# Altium footprint library Connector_Phoenix_MC.PcbLib: 180 footprints (part 7 of 12)
Each footprint in its own frame and in the unit in brackets; x right, y up, seen from the top. Pads: shape width x height; smd on the part's side, far side on the other; paste and mask are expansions set on the pad; w line width, h text height; cw(c..) or ccw(c..) is an arc to the next point about the centre after c.
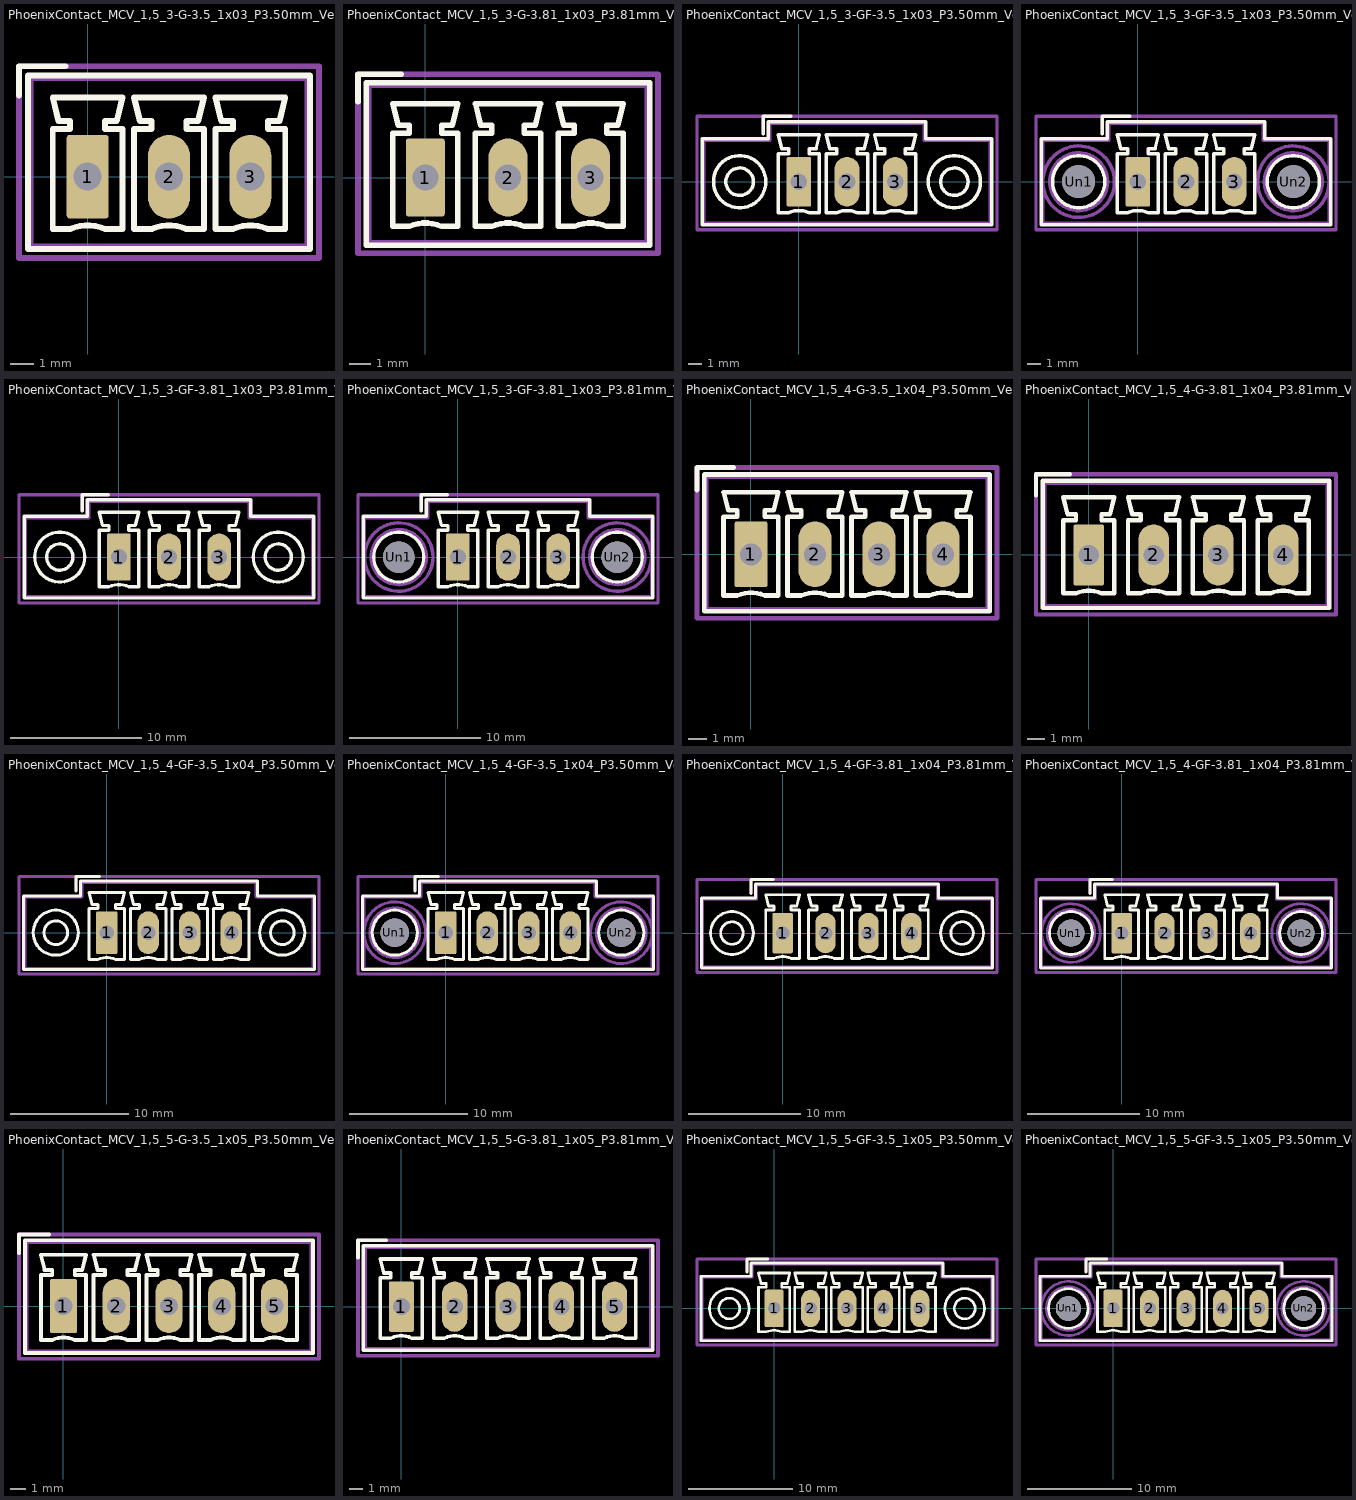
[diagram p6: the footprints below, top view; thin cyan lines are the x and y axes]

## PhoenixContact_MCV_1,5_3-G-3.5_1x03_P3.50mm_Vertical [mm]
pads (3):
  rrect14% 1.8x3.6 hole 1.2: 1(0,0)
  rrect100% 1.8x3.6 hole 1.2: 2(3.5,0) 3(7,0)
F.SilkS:
  lines w0.254: -2.95,3.5 -2.95,4.75 -0.95,4.75 ; 0.75,-2.25 ccw(c0,-3.95) -0.75,-2.25 -1.5,-2.25 -1.5,2.05 -0.75,2.05 -0.75,2.4 -1.25,2.4 -1.5,3.4 1.5,3.4 1.25,2.4 0.75,2.4 0.75,2.05 1.5,2.05 1.5,-2.25 0.75,-2.25 ; -2.56,-3.11 9.56,-3.11 9.56,4.36 -2.56,4.36 -2.56,-3.11 ; 2,-2.25 2.75,-2.25 cw(c3.5,-3.95) 4.25,-2.25 5,-2.25 5,2.05 4.25,2.05 4.25,2.4 4.75,2.4 5,3.4 2,3.4 2.25,2.4 2.75,2.4 2.75,2.05 2,2.05 2,-2.25 ; 5.5,-2.25 6.25,-2.25 cw(c7,-3.95) 7.75,-2.25 8.5,-2.25 8.5,2.05 7.75,2.05 7.75,2.4 8.25,2.4 8.5,3.4 5.5,3.4 5.75,2.4 6.25,2.4 6.25,2.05 5.5,2.05 5.5,-2.25
Top Assembly:
  lines w0.254: -2.95,3.5 -2.95,4.75 -0.95,4.75 ; -2.45,-3 9.45,-3 9.45,4.25 -2.45,4.25 -2.45,-3
  text "'.Designator'" at -0.547,2.71 h1
Top Courtyard:
  lines w0.254: -2.95,-3.5 9.95,-3.5 9.95,4.75 -2.95,4.75 -2.95,-3.5
Top Designator:
  text ".Designator" at -4.118,0.117 h1.52

## PhoenixContact_MCV_1,5_3-G-3.81_1x03_P3.81mm_Vertical [mm]
pads (3):
  rrect14% 1.8x3.6 hole 1.2: 1(0,0)
  rrect100% 1.8x3.6 hole 1.2: 2(3.81,0) 3(7.62,0)
F.SilkS:
  lines w0.254: -3.1,3.5 -3.1,4.75 -1.1,4.75 ; 0.75,-2.25 ccw(c0,-3.95) -0.75,-2.25 -1.5,-2.25 -1.5,2.05 -0.75,2.05 -0.75,2.4 -1.25,2.4 -1.5,3.4 1.5,3.4 1.25,2.4 0.75,2.4 0.75,2.05 1.5,2.05 1.5,-2.25 0.75,-2.25 ; 4.56,-2.25 ccw(c3.81,-3.95) 3.06,-2.25 2.31,-2.25 2.31,2.05 3.06,2.05 3.06,2.4 2.56,2.4 2.31,3.4 5.31,3.4 5.06,2.4 4.56,2.4 4.56,2.05 5.31,2.05 5.31,-2.25 4.56,-2.25 ; 8.37,-2.25 ccw(c7.62,-3.95) 6.87,-2.25 6.12,-2.25 6.12,2.05 6.87,2.05 6.87,2.4 6.37,2.4 6.12,3.4 9.12,3.4 8.87,2.4 8.37,2.4 8.37,2.05 9.12,2.05 9.12,-2.25 8.37,-2.25 ; -2.71,-3.11 10.33,-3.11 10.33,4.36 -2.71,4.36 -2.71,-3.11
Top Assembly:
  lines w0.254: -3.1,3.5 -3.1,4.75 -1.1,4.75 ; -2.6,-3 10.22,-3 10.22,4.25 -2.6,4.25 -2.6,-3
  text "'.Designator'" at -0.237,2.71 h1
Top Courtyard:
  lines w0.254: -3.1,-3.5 10.72,-3.5 10.72,4.75 -3.1,4.75 -3.1,-3.5
Top Designator:
  text ".Designator" at -3.808,0.117 h1.52

## PhoenixContact_MCV_1,5_3-GF-3.5_1x03_P3.50mm_Vertical_ThreadedFlange [mm]
pads (3):
  rrect14% 1.8x3.6 hole 1.2: 1(0,0)
  rrect100% 1.8x3.6 hole 1.2: 2(3.5,0) 3(7,0)
F.SilkS:
  circle w0.254: c11.3,0 r1.9
  circle w0.254: c11.3,0 r1
  circle w0.254: c-4.3,0 r1.9
  circle w0.254: c-4.3,0 r1
  lines w0.254: -2.6,3.5 -2.6,4.75 -0.6,4.75 ; 0.75,-2.25 ccw(c0,-3.95) -0.75,-2.25 -1.5,-2.25 -1.5,2.05 -0.75,2.05 -0.75,2.4 -1.25,2.4 -1.5,3.4 1.5,3.4 1.25,2.4 0.75,2.4 0.75,2.05 1.5,2.05 1.5,-2.25 0.75,-2.25 ; -7.01,-3.11 14.01,-3.11 14.01,3.11 9.21,3.11 9.21,4.36 -2.21,4.36 -2.21,3.11 -7.01,3.11 -7.01,-3.11 ; 2,-2.25 2.75,-2.25 cw(c3.5,-3.95) 4.25,-2.25 5,-2.25 5,2.05 4.25,2.05 4.25,2.4 4.75,2.4 5,3.4 2,3.4 2.25,2.4 2.75,2.4 2.75,2.05 2,2.05 2,-2.25 ; 5.5,-2.25 6.25,-2.25 cw(c7,-3.95) 7.75,-2.25 8.5,-2.25 8.5,2.05 7.75,2.05 7.75,2.4 8.25,2.4 8.5,3.4 5.5,3.4 5.75,2.4 6.25,2.4 6.25,2.05 5.5,2.05 5.5,-2.25
Top Assembly:
  lines w0.254: -2.6,3.5 -2.6,4.75 -0.6,4.75 ; -6.9,-3 13.9,-3 13.9,3 9.1,3 9.1,4.25 -2.1,4.25 -2.1,3 -6.9,3 -6.9,-3
  text "'.Designator'" at -0.547,2.71 h1
Top Courtyard:
  lines w0.254: -7.4,-3.5 14.4,-3.5 14.4,4.75 -7.4,4.75 -7.4,-3.5
Top Designator:
  text ".Designator" at -4.118,0.117 h1.52

## PhoenixContact_MCV_1,5_3-GF-3.5_1x03_P3.50mm_Vertical_ThreadedFlange_MountHole [mm]
pads (5):
  rrect14% 1.8x3.6 hole 1.2: 1(0,0)
  rrect100% 1.8x3.6 hole 1.2: 2(3.5,0) 3(7,0)
  round 2.4 hole 2.4: Un1(-4.3,0) Un2(11.3,0)
F.SilkS:
  circle w0.254: c11.3,0 r1.9
  circle w0.254: c-4.3,0 r1.9
  lines w0.254: -2.6,3.5 -2.6,4.75 -0.6,4.75 ; 0.75,-2.25 ccw(c0,-3.95) -0.75,-2.25 -1.5,-2.25 -1.5,2.05 -0.75,2.05 -0.75,2.4 -1.25,2.4 -1.5,3.4 1.5,3.4 1.25,2.4 0.75,2.4 0.75,2.05 1.5,2.05 1.5,-2.25 0.75,-2.25 ; -7.01,-3.11 14.01,-3.11 14.01,3.11 9.21,3.11 9.21,4.36 -2.21,4.36 -2.21,3.11 -7.01,3.11 -7.01,-3.11 ; 2,-2.25 2.75,-2.25 cw(c3.5,-3.95) 4.25,-2.25 5,-2.25 5,2.05 4.25,2.05 4.25,2.4 4.75,2.4 5,3.4 2,3.4 2.25,2.4 2.75,2.4 2.75,2.05 2,2.05 2,-2.25 ; 5.5,-2.25 6.25,-2.25 cw(c7,-3.95) 7.75,-2.25 8.5,-2.25 8.5,2.05 7.75,2.05 7.75,2.4 8.25,2.4 8.5,3.4 5.5,3.4 5.75,2.4 6.25,2.4 6.25,2.05 5.5,2.05 5.5,-2.25
B.SilkS:
  circle w0.254: c11.3,0 r2.21
  circle w0.254: c-4.3,0 r2.21
Top Assembly:
  lines w0.254: -2.6,3.5 -2.6,4.75 -0.6,4.75 ; -6.9,-3 13.9,-3 13.9,3 9.1,3 9.1,4.25 -2.1,4.25 -2.1,3 -6.9,3 -6.9,-3
  text "'.Designator'" at -0.547,2.71 h1
Bottom Assembly:
  circle w0.254: c11.3,0 r2.1
  circle w0.254: c-4.3,0 r2.1
Top Courtyard:
  lines w0.254: -7.4,-3.5 14.4,-3.5 14.4,4.75 -7.4,4.75 -7.4,-3.5
Bottom Courtyard:
  circle w0.254: c11.3,0 r2.6
  circle w0.254: c-4.3,0 r2.6
Top Designator:
  text ".Designator" at -4.118,0.117 h1.52

## PhoenixContact_MCV_1,5_3-GF-3.81_1x03_P3.81mm_Vertical_ThreadedFlange [mm]
pads (3):
  rrect14% 1.8x3.6 hole 1.2: 1(0,0)
  rrect100% 1.8x3.6 hole 1.2: 2(3.81,0) 3(7.62,0)
F.SilkS:
  circle w0.254: c12.12,0 r1.9
  circle w0.254: c12.12,0 r1
  circle w0.254: c-4.5,0 r1.9
  circle w0.254: c-4.5,0 r1
  lines w0.254: -2.8,3.5 -2.8,4.75 -0.8,4.75 ; 0.75,-2.25 ccw(c0,-3.95) -0.75,-2.25 -1.5,-2.25 -1.5,2.05 -0.75,2.05 -0.75,2.4 -1.25,2.4 -1.5,3.4 1.5,3.4 1.25,2.4 0.75,2.4 0.75,2.05 1.5,2.05 1.5,-2.25 0.75,-2.25 ; 4.56,-2.25 ccw(c3.81,-3.95) 3.06,-2.25 2.31,-2.25 2.31,2.05 3.06,2.05 3.06,2.4 2.56,2.4 2.31,3.4 5.31,3.4 5.06,2.4 4.56,2.4 4.56,2.05 5.31,2.05 5.31,-2.25 4.56,-2.25 ; 8.37,-2.25 ccw(c7.62,-3.95) 6.87,-2.25 6.12,-2.25 6.12,2.05 6.87,2.05 6.87,2.4 6.37,2.4 6.12,3.4 9.12,3.4 8.87,2.4 8.37,2.4 8.37,2.05 9.12,2.05 9.12,-2.25 8.37,-2.25 ; -7.21,-3.11 14.83,-3.11 14.83,3.11 10.03,3.11 10.03,4.36 -2.41,4.36 -2.41,3.11 -7.21,3.11 -7.21,-3.11
Top Assembly:
  lines w0.254: -2.8,3.5 -2.8,4.75 -0.8,4.75 ; -7.1,-3 14.72,-3 14.72,3 9.92,3 9.92,4.25 -2.3,4.25 -2.3,3 -7.1,3 -7.1,-3
  text "'.Designator'" at -0.237,2.71 h1
Top Courtyard:
  lines w0.254: -7.6,-3.5 15.22,-3.5 15.22,4.75 -7.6,4.75 -7.6,-3.5
Top Designator:
  text ".Designator" at -3.808,0.117 h1.52

## PhoenixContact_MCV_1,5_3-GF-3.81_1x03_P3.81mm_Vertical_ThreadedFlange_MountHole [mm]
pads (5):
  rrect14% 1.8x3.6 hole 1.2: 1(0,0)
  rrect100% 1.8x3.6 hole 1.2: 2(3.81,0) 3(7.62,0)
  round 2.4 hole 2.4: Un1(-4.5,0) Un2(12.12,0)
F.SilkS:
  circle w0.254: c12.12,0 r1.9
  circle w0.254: c-4.5,0 r1.9
  lines w0.254: -2.8,3.5 -2.8,4.75 -0.8,4.75 ; 0.75,-2.25 ccw(c0,-3.95) -0.75,-2.25 -1.5,-2.25 -1.5,2.05 -0.75,2.05 -0.75,2.4 -1.25,2.4 -1.5,3.4 1.5,3.4 1.25,2.4 0.75,2.4 0.75,2.05 1.5,2.05 1.5,-2.25 0.75,-2.25 ; 4.56,-2.25 ccw(c3.81,-3.95) 3.06,-2.25 2.31,-2.25 2.31,2.05 3.06,2.05 3.06,2.4 2.56,2.4 2.31,3.4 5.31,3.4 5.06,2.4 4.56,2.4 4.56,2.05 5.31,2.05 5.31,-2.25 4.56,-2.25 ; 8.37,-2.25 ccw(c7.62,-3.95) 6.87,-2.25 6.12,-2.25 6.12,2.05 6.87,2.05 6.87,2.4 6.37,2.4 6.12,3.4 9.12,3.4 8.87,2.4 8.37,2.4 8.37,2.05 9.12,2.05 9.12,-2.25 8.37,-2.25 ; -7.21,-3.11 14.83,-3.11 14.83,3.11 10.03,3.11 10.03,4.36 -2.41,4.36 -2.41,3.11 -7.21,3.11 -7.21,-3.11
B.SilkS:
  circle w0.254: c12.12,0 r2.21
  circle w0.254: c-4.5,0 r2.21
Top Assembly:
  lines w0.254: -2.8,3.5 -2.8,4.75 -0.8,4.75 ; -7.1,-3 14.72,-3 14.72,3 9.92,3 9.92,4.25 -2.3,4.25 -2.3,3 -7.1,3 -7.1,-3
  text "'.Designator'" at -0.237,2.71 h1
Bottom Assembly:
  circle w0.254: c12.12,0 r2.1
  circle w0.254: c-4.5,0 r2.1
Top Courtyard:
  lines w0.254: -7.6,-3.5 15.22,-3.5 15.22,4.75 -7.6,4.75 -7.6,-3.5
Bottom Courtyard:
  circle w0.254: c12.12,0 r2.6
  circle w0.254: c-4.5,0 r2.6
Top Designator:
  text ".Designator" at -3.808,0.117 h1.52

## PhoenixContact_MCV_1,5_4-G-3.5_1x04_P3.50mm_Vertical [mm]
pads (4):
  rrect14% 1.8x3.6 hole 1.2: 1(0,0)
  rrect100% 1.8x3.6 hole 1.2: 2(3.5,0) 3(7,0) 4(10.5,0)
F.SilkS:
  lines w0.254: -2.95,3.5 -2.95,4.75 -0.95,4.75 ; 0.75,-2.25 ccw(c0,-3.95) -0.75,-2.25 -1.5,-2.25 -1.5,2.05 -0.75,2.05 -0.75,2.4 -1.25,2.4 -1.5,3.4 1.5,3.4 1.25,2.4 0.75,2.4 0.75,2.05 1.5,2.05 1.5,-2.25 0.75,-2.25 ; -2.56,-3.11 13.06,-3.11 13.06,4.36 -2.56,4.36 -2.56,-3.11 ; 2,-2.25 2.75,-2.25 cw(c3.5,-3.95) 4.25,-2.25 5,-2.25 5,2.05 4.25,2.05 4.25,2.4 4.75,2.4 5,3.4 2,3.4 2.25,2.4 2.75,2.4 2.75,2.05 2,2.05 2,-2.25 ; 5.5,-2.25 6.25,-2.25 cw(c7,-3.95) 7.75,-2.25 8.5,-2.25 8.5,2.05 7.75,2.05 7.75,2.4 8.25,2.4 8.5,3.4 5.5,3.4 5.75,2.4 6.25,2.4 6.25,2.05 5.5,2.05 5.5,-2.25 ; 9,-2.25 9.75,-2.25 cw(c10.5,-3.95) 11.25,-2.25 12,-2.25 12,2.05 11.25,2.05 11.25,2.4 11.75,2.4 12,3.4 9,3.4 9.25,2.4 9.75,2.4 9.75,2.05 9,2.05 9,-2.25
Top Assembly:
  lines w0.254: -2.95,3.5 -2.95,4.75 -0.95,4.75 ; -2.45,-3 12.95,-3 12.95,4.25 -2.45,4.25 -2.45,-3
  text "'.Designator'" at 1.203,2.71 h1
Top Courtyard:
  lines w0.254: -2.95,-3.5 13.45,-3.5 13.45,4.75 -2.95,4.75 -2.95,-3.5
Top Designator:
  text ".Designator" at -2.368,0.117 h1.52

## PhoenixContact_MCV_1,5_4-G-3.81_1x04_P3.81mm_Vertical [mm]
pads (4):
  rrect14% 1.8x3.6 hole 1.2: 1(0,0)
  rrect100% 1.8x3.6 hole 1.2: 2(3.81,0) 3(7.62,0) 4(11.43,0)
F.SilkS:
  lines w0.254: -3.1,3.5 -3.1,4.75 -1.1,4.75 ; 0.75,-2.25 ccw(c0,-3.95) -0.75,-2.25 -1.5,-2.25 -1.5,2.05 -0.75,2.05 -0.75,2.4 -1.25,2.4 -1.5,3.4 1.5,3.4 1.25,2.4 0.75,2.4 0.75,2.05 1.5,2.05 1.5,-2.25 0.75,-2.25 ; 4.56,-2.25 ccw(c3.81,-3.95) 3.06,-2.25 2.31,-2.25 2.31,2.05 3.06,2.05 3.06,2.4 2.56,2.4 2.31,3.4 5.31,3.4 5.06,2.4 4.56,2.4 4.56,2.05 5.31,2.05 5.31,-2.25 4.56,-2.25 ; 8.37,-2.25 ccw(c7.62,-3.95) 6.87,-2.25 6.12,-2.25 6.12,2.05 6.87,2.05 6.87,2.4 6.37,2.4 6.12,3.4 9.12,3.4 8.87,2.4 8.37,2.4 8.37,2.05 9.12,2.05 9.12,-2.25 8.37,-2.25 ; 12.18,-2.25 ccw(c11.43,-3.95) 10.68,-2.25 9.93,-2.25 9.93,2.05 10.68,2.05 10.68,2.4 10.18,2.4 9.93,3.4 12.93,3.4 12.68,2.4 12.18,2.4 12.18,2.05 12.93,2.05 12.93,-2.25 12.18,-2.25 ; -2.71,-3.11 14.14,-3.11 14.14,4.36 -2.71,4.36 -2.71,-3.11
Top Assembly:
  lines w0.254: -3.1,3.5 -3.1,4.75 -1.1,4.75 ; -2.6,-3 14.03,-3 14.03,4.25 -2.6,4.25 -2.6,-3
  text "'.Designator'" at 1.673,2.71 h1
Top Courtyard:
  lines w0.254: -3.1,-3.5 14.53,-3.5 14.53,4.75 -3.1,4.75 -3.1,-3.5
Top Designator:
  text ".Designator" at -1.903,0.117 h1.52

## PhoenixContact_MCV_1,5_4-GF-3.5_1x04_P3.50mm_Vertical_ThreadedFlange [mm]
pads (4):
  rrect14% 1.8x3.6 hole 1.2: 1(0,0)
  rrect100% 1.8x3.6 hole 1.2: 2(3.5,0) 3(7,0) 4(10.5,0)
F.SilkS:
  circle w0.254: c14.8,0 r1.9
  circle w0.254: c14.8,0 r1
  circle w0.254: c-4.3,0 r1.9
  circle w0.254: c-4.3,0 r1
  lines w0.254: -2.6,3.5 -2.6,4.75 -0.6,4.75 ; 0.75,-2.25 ccw(c0,-3.95) -0.75,-2.25 -1.5,-2.25 -1.5,2.05 -0.75,2.05 -0.75,2.4 -1.25,2.4 -1.5,3.4 1.5,3.4 1.25,2.4 0.75,2.4 0.75,2.05 1.5,2.05 1.5,-2.25 0.75,-2.25 ; -7.01,-3.11 17.51,-3.11 17.51,3.11 12.71,3.11 12.71,4.36 -2.21,4.36 -2.21,3.11 -7.01,3.11 -7.01,-3.11 ; 2,-2.25 2.75,-2.25 cw(c3.5,-3.95) 4.25,-2.25 5,-2.25 5,2.05 4.25,2.05 4.25,2.4 4.75,2.4 5,3.4 2,3.4 2.25,2.4 2.75,2.4 2.75,2.05 2,2.05 2,-2.25 ; 5.5,-2.25 6.25,-2.25 cw(c7,-3.95) 7.75,-2.25 8.5,-2.25 8.5,2.05 7.75,2.05 7.75,2.4 8.25,2.4 8.5,3.4 5.5,3.4 5.75,2.4 6.25,2.4 6.25,2.05 5.5,2.05 5.5,-2.25 ; 9,-2.25 9.75,-2.25 cw(c10.5,-3.95) 11.25,-2.25 12,-2.25 12,2.05 11.25,2.05 11.25,2.4 11.75,2.4 12,3.4 9,3.4 9.25,2.4 9.75,2.4 9.75,2.05 9,2.05 9,-2.25
Top Assembly:
  lines w0.254: -2.6,3.5 -2.6,4.75 -0.6,4.75 ; -6.9,-3 17.4,-3 17.4,3 12.6,3 12.6,4.25 -2.1,4.25 -2.1,3 -6.9,3 -6.9,-3
  text "'.Designator'" at 1.203,2.71 h1
Top Courtyard:
  lines w0.254: -7.4,-3.5 17.9,-3.5 17.9,4.75 -7.4,4.75 -7.4,-3.5
Top Designator:
  text ".Designator" at -2.368,0.117 h1.52

## PhoenixContact_MCV_1,5_4-GF-3.5_1x04_P3.50mm_Vertical_ThreadedFlange_MountHole [mm]
pads (6):
  rrect14% 1.8x3.6 hole 1.2: 1(0,0)
  rrect100% 1.8x3.6 hole 1.2: 2(3.5,0) 3(7,0) 4(10.5,0)
  round 2.4 hole 2.4: Un1(-4.3,0) Un2(14.8,0)
F.SilkS:
  circle w0.254: c14.8,0 r1.9
  circle w0.254: c-4.3,0 r1.9
  lines w0.254: -2.6,3.5 -2.6,4.75 -0.6,4.75 ; 0.75,-2.25 ccw(c0,-3.95) -0.75,-2.25 -1.5,-2.25 -1.5,2.05 -0.75,2.05 -0.75,2.4 -1.25,2.4 -1.5,3.4 1.5,3.4 1.25,2.4 0.75,2.4 0.75,2.05 1.5,2.05 1.5,-2.25 0.75,-2.25 ; -7.01,-3.11 17.51,-3.11 17.51,3.11 12.71,3.11 12.71,4.36 -2.21,4.36 -2.21,3.11 -7.01,3.11 -7.01,-3.11 ; 2,-2.25 2.75,-2.25 cw(c3.5,-3.95) 4.25,-2.25 5,-2.25 5,2.05 4.25,2.05 4.25,2.4 4.75,2.4 5,3.4 2,3.4 2.25,2.4 2.75,2.4 2.75,2.05 2,2.05 2,-2.25 ; 5.5,-2.25 6.25,-2.25 cw(c7,-3.95) 7.75,-2.25 8.5,-2.25 8.5,2.05 7.75,2.05 7.75,2.4 8.25,2.4 8.5,3.4 5.5,3.4 5.75,2.4 6.25,2.4 6.25,2.05 5.5,2.05 5.5,-2.25 ; 9,-2.25 9.75,-2.25 cw(c10.5,-3.95) 11.25,-2.25 12,-2.25 12,2.05 11.25,2.05 11.25,2.4 11.75,2.4 12,3.4 9,3.4 9.25,2.4 9.75,2.4 9.75,2.05 9,2.05 9,-2.25
B.SilkS:
  circle w0.254: c14.8,0 r2.21
  circle w0.254: c-4.3,0 r2.21
Top Assembly:
  lines w0.254: -2.6,3.5 -2.6,4.75 -0.6,4.75 ; -6.9,-3 17.4,-3 17.4,3 12.6,3 12.6,4.25 -2.1,4.25 -2.1,3 -6.9,3 -6.9,-3
  text "'.Designator'" at 1.203,2.71 h1
Bottom Assembly:
  circle w0.254: c14.8,0 r2.1
  circle w0.254: c-4.3,0 r2.1
Top Courtyard:
  lines w0.254: -7.4,-3.5 17.9,-3.5 17.9,4.75 -7.4,4.75 -7.4,-3.5
Bottom Courtyard:
  circle w0.254: c14.8,0 r2.6
  circle w0.254: c-4.3,0 r2.6
Top Designator:
  text ".Designator" at -2.368,0.117 h1.52

## PhoenixContact_MCV_1,5_4-GF-3.81_1x04_P3.81mm_Vertical_ThreadedFlange [mm]
pads (4):
  rrect14% 1.8x3.6 hole 1.2: 1(0,0)
  rrect100% 1.8x3.6 hole 1.2: 2(3.81,0) 3(7.62,0) 4(11.43,0)
F.SilkS:
  circle w0.254: c15.93,0 r1.9
  circle w0.254: c15.93,0 r1
  circle w0.254: c-4.5,0 r1.9
  circle w0.254: c-4.5,0 r1
  lines w0.254: -2.8,3.5 -2.8,4.75 -0.8,4.75 ; 0.75,-2.25 ccw(c0,-3.95) -0.75,-2.25 -1.5,-2.25 -1.5,2.05 -0.75,2.05 -0.75,2.4 -1.25,2.4 -1.5,3.4 1.5,3.4 1.25,2.4 0.75,2.4 0.75,2.05 1.5,2.05 1.5,-2.25 0.75,-2.25 ; 4.56,-2.25 ccw(c3.81,-3.95) 3.06,-2.25 2.31,-2.25 2.31,2.05 3.06,2.05 3.06,2.4 2.56,2.4 2.31,3.4 5.31,3.4 5.06,2.4 4.56,2.4 4.56,2.05 5.31,2.05 5.31,-2.25 4.56,-2.25 ; 8.37,-2.25 ccw(c7.62,-3.95) 6.87,-2.25 6.12,-2.25 6.12,2.05 6.87,2.05 6.87,2.4 6.37,2.4 6.12,3.4 9.12,3.4 8.87,2.4 8.37,2.4 8.37,2.05 9.12,2.05 9.12,-2.25 8.37,-2.25 ; 12.18,-2.25 ccw(c11.43,-3.95) 10.68,-2.25 9.93,-2.25 9.93,2.05 10.68,2.05 10.68,2.4 10.18,2.4 9.93,3.4 12.93,3.4 12.68,2.4 12.18,2.4 12.18,2.05 12.93,2.05 12.93,-2.25 12.18,-2.25 ; -7.21,-3.11 18.64,-3.11 18.64,3.11 13.84,3.11 13.84,4.36 -2.41,4.36 -2.41,3.11 -7.21,3.11 -7.21,-3.11
Top Assembly:
  lines w0.254: -2.8,3.5 -2.8,4.75 -0.8,4.75 ; -7.1,-3 18.53,-3 18.53,3 13.73,3 13.73,4.25 -2.3,4.25 -2.3,3 -7.1,3 -7.1,-3
  text "'.Designator'" at 1.673,2.71 h1
Top Courtyard:
  lines w0.254: -7.6,-3.5 19.03,-3.5 19.03,4.75 -7.6,4.75 -7.6,-3.5
Top Designator:
  text ".Designator" at -1.903,0.117 h1.52

## PhoenixContact_MCV_1,5_4-GF-3.81_1x04_P3.81mm_Vertical_ThreadedFlange_MountHole [mm]
pads (6):
  rrect14% 1.8x3.6 hole 1.2: 1(0,0)
  rrect100% 1.8x3.6 hole 1.2: 2(3.81,0) 3(7.62,0) 4(11.43,0)
  round 2.4 hole 2.4: Un1(-4.5,0) Un2(15.93,0)
F.SilkS:
  circle w0.254: c15.93,0 r1.9
  circle w0.254: c-4.5,0 r1.9
  lines w0.254: -2.8,3.5 -2.8,4.75 -0.8,4.75 ; 0.75,-2.25 ccw(c0,-3.95) -0.75,-2.25 -1.5,-2.25 -1.5,2.05 -0.75,2.05 -0.75,2.4 -1.25,2.4 -1.5,3.4 1.5,3.4 1.25,2.4 0.75,2.4 0.75,2.05 1.5,2.05 1.5,-2.25 0.75,-2.25 ; 4.56,-2.25 ccw(c3.81,-3.95) 3.06,-2.25 2.31,-2.25 2.31,2.05 3.06,2.05 3.06,2.4 2.56,2.4 2.31,3.4 5.31,3.4 5.06,2.4 4.56,2.4 4.56,2.05 5.31,2.05 5.31,-2.25 4.56,-2.25 ; 8.37,-2.25 ccw(c7.62,-3.95) 6.87,-2.25 6.12,-2.25 6.12,2.05 6.87,2.05 6.87,2.4 6.37,2.4 6.12,3.4 9.12,3.4 8.87,2.4 8.37,2.4 8.37,2.05 9.12,2.05 9.12,-2.25 8.37,-2.25 ; 12.18,-2.25 ccw(c11.43,-3.95) 10.68,-2.25 9.93,-2.25 9.93,2.05 10.68,2.05 10.68,2.4 10.18,2.4 9.93,3.4 12.93,3.4 12.68,2.4 12.18,2.4 12.18,2.05 12.93,2.05 12.93,-2.25 12.18,-2.25 ; -7.21,-3.11 18.64,-3.11 18.64,3.11 13.84,3.11 13.84,4.36 -2.41,4.36 -2.41,3.11 -7.21,3.11 -7.21,-3.11
B.SilkS:
  circle w0.254: c15.93,0 r2.21
  circle w0.254: c-4.5,0 r2.21
Top Assembly:
  lines w0.254: -2.8,3.5 -2.8,4.75 -0.8,4.75 ; -7.1,-3 18.53,-3 18.53,3 13.73,3 13.73,4.25 -2.3,4.25 -2.3,3 -7.1,3 -7.1,-3
  text "'.Designator'" at 1.673,2.71 h1
Bottom Assembly:
  circle w0.254: c15.93,0 r2.1
  circle w0.254: c-4.5,0 r2.1
Top Courtyard:
  lines w0.254: -7.6,-3.5 19.03,-3.5 19.03,4.75 -7.6,4.75 -7.6,-3.5
Bottom Courtyard:
  circle w0.254: c15.93,0 r2.6
  circle w0.254: c-4.5,0 r2.6
Top Designator:
  text ".Designator" at -1.903,0.117 h1.52

## PhoenixContact_MCV_1,5_5-G-3.5_1x05_P3.50mm_Vertical [mm]
pads (5):
  rrect14% 1.8x3.6 hole 1.2: 1(0,0)
  rrect100% 1.8x3.6 hole 1.2: 2(3.5,0) 3(7,0) 4(10.5,0) 5(14,0)
F.SilkS:
  lines w0.254: -2.95,3.5 -2.95,4.75 -0.95,4.75 ; 0.75,-2.25 ccw(c0,-3.95) -0.75,-2.25 -1.5,-2.25 -1.5,2.05 -0.75,2.05 -0.75,2.4 -1.25,2.4 -1.5,3.4 1.5,3.4 1.25,2.4 0.75,2.4 0.75,2.05 1.5,2.05 1.5,-2.25 0.75,-2.25 ; -2.56,-3.11 16.56,-3.11 16.56,4.36 -2.56,4.36 -2.56,-3.11 ; 2,-2.25 2.75,-2.25 cw(c3.5,-3.95) 4.25,-2.25 5,-2.25 5,2.05 4.25,2.05 4.25,2.4 4.75,2.4 5,3.4 2,3.4 2.25,2.4 2.75,2.4 2.75,2.05 2,2.05 2,-2.25 ; 5.5,-2.25 6.25,-2.25 cw(c7,-3.95) 7.75,-2.25 8.5,-2.25 8.5,2.05 7.75,2.05 7.75,2.4 8.25,2.4 8.5,3.4 5.5,3.4 5.75,2.4 6.25,2.4 6.25,2.05 5.5,2.05 5.5,-2.25 ; 9,-2.25 9.75,-2.25 cw(c10.5,-3.95) 11.25,-2.25 12,-2.25 12,2.05 11.25,2.05 11.25,2.4 11.75,2.4 12,3.4 9,3.4 9.25,2.4 9.75,2.4 9.75,2.05 9,2.05 9,-2.25 ; 12.5,-2.25 13.25,-2.25 cw(c14,-3.95) 14.75,-2.25 15.5,-2.25 15.5,2.05 14.75,2.05 14.75,2.4 15.25,2.4 15.5,3.4 12.5,3.4 12.75,2.4 13.25,2.4 13.25,2.05 12.5,2.05 12.5,-2.25
Top Assembly:
  lines w0.254: -2.95,3.5 -2.95,4.75 -0.95,4.75 ; -2.45,-3 16.45,-3 16.45,4.25 -2.45,4.25 -2.45,-3
  text "'.Designator'" at 2.953,2.71 h1
Top Courtyard:
  lines w0.254: -2.95,-3.5 16.95,-3.5 16.95,4.75 -2.95,4.75 -2.95,-3.5
Top Designator:
  text ".Designator" at -0.618,0.117 h1.52

## PhoenixContact_MCV_1,5_5-G-3.81_1x05_P3.81mm_Vertical [mm]
pads (5):
  rrect14% 1.8x3.6 hole 1.2: 1(0,0)
  rrect100% 1.8x3.6 hole 1.2: 2(3.81,0) 3(7.62,0) 4(11.43,0) 5(15.24,0)
F.SilkS:
  lines w0.254: -3.1,3.5 -3.1,4.75 -1.1,4.75 ; 0.75,-2.25 ccw(c0,-3.95) -0.75,-2.25 -1.5,-2.25 -1.5,2.05 -0.75,2.05 -0.75,2.4 -1.25,2.4 -1.5,3.4 1.5,3.4 1.25,2.4 0.75,2.4 0.75,2.05 1.5,2.05 1.5,-2.25 0.75,-2.25 ; 4.56,-2.25 ccw(c3.81,-3.95) 3.06,-2.25 2.31,-2.25 2.31,2.05 3.06,2.05 3.06,2.4 2.56,2.4 2.31,3.4 5.31,3.4 5.06,2.4 4.56,2.4 4.56,2.05 5.31,2.05 5.31,-2.25 4.56,-2.25 ; 8.37,-2.25 ccw(c7.62,-3.95) 6.87,-2.25 6.12,-2.25 6.12,2.05 6.87,2.05 6.87,2.4 6.37,2.4 6.12,3.4 9.12,3.4 8.87,2.4 8.37,2.4 8.37,2.05 9.12,2.05 9.12,-2.25 8.37,-2.25 ; 12.18,-2.25 ccw(c11.43,-3.95) 10.68,-2.25 9.93,-2.25 9.93,2.05 10.68,2.05 10.68,2.4 10.18,2.4 9.93,3.4 12.93,3.4 12.68,2.4 12.18,2.4 12.18,2.05 12.93,2.05 12.93,-2.25 12.18,-2.25 ; 15.99,-2.25 ccw(c15.24,-3.95) 14.49,-2.25 13.74,-2.25 13.74,2.05 14.49,2.05 14.49,2.4 13.99,2.4 13.74,3.4 16.74,3.4 16.49,2.4 15.99,2.4 15.99,2.05 16.74,2.05 16.74,-2.25 15.99,-2.25 ; -2.71,-3.11 17.95,-3.11 17.95,4.36 -2.71,4.36 -2.71,-3.11
Top Assembly:
  lines w0.254: -3.1,3.5 -3.1,4.75 -1.1,4.75 ; -2.6,-3 17.84,-3 17.84,4.25 -2.6,4.25 -2.6,-3
  text "'.Designator'" at 3.573,2.71 h1
Top Courtyard:
  lines w0.254: -3.1,-3.5 18.34,-3.5 18.34,4.75 -3.1,4.75 -3.1,-3.5
Top Designator:
  text ".Designator" at 0.002,0.117 h1.52

## PhoenixContact_MCV_1,5_5-GF-3.5_1x05_P3.50mm_Vertical_ThreadedFlange [mm]
pads (5):
  rrect14% 1.8x3.6 hole 1.2: 1(0,0)
  rrect100% 1.8x3.6 hole 1.2: 2(3.5,0) 3(7,0) 4(10.5,0) 5(14,0)
F.SilkS:
  circle w0.254: c18.3,0 r1.9
  circle w0.254: c18.3,0 r1
  circle w0.254: c-4.3,0 r1.9
  circle w0.254: c-4.3,0 r1
  lines w0.254: -2.6,3.5 -2.6,4.75 -0.6,4.75 ; 0.75,-2.25 ccw(c0,-3.95) -0.75,-2.25 -1.5,-2.25 -1.5,2.05 -0.75,2.05 -0.75,2.4 -1.25,2.4 -1.5,3.4 1.5,3.4 1.25,2.4 0.75,2.4 0.75,2.05 1.5,2.05 1.5,-2.25 0.75,-2.25 ; -7.01,-3.11 21.01,-3.11 21.01,3.11 16.21,3.11 16.21,4.36 -2.21,4.36 -2.21,3.11 -7.01,3.11 -7.01,-3.11 ; 2,-2.25 2.75,-2.25 cw(c3.5,-3.95) 4.25,-2.25 5,-2.25 5,2.05 4.25,2.05 4.25,2.4 4.75,2.4 5,3.4 2,3.4 2.25,2.4 2.75,2.4 2.75,2.05 2,2.05 2,-2.25 ; 5.5,-2.25 6.25,-2.25 cw(c7,-3.95) 7.75,-2.25 8.5,-2.25 8.5,2.05 7.75,2.05 7.75,2.4 8.25,2.4 8.5,3.4 5.5,3.4 5.75,2.4 6.25,2.4 6.25,2.05 5.5,2.05 5.5,-2.25 ; 9,-2.25 9.75,-2.25 cw(c10.5,-3.95) 11.25,-2.25 12,-2.25 12,2.05 11.25,2.05 11.25,2.4 11.75,2.4 12,3.4 9,3.4 9.25,2.4 9.75,2.4 9.75,2.05 9,2.05 9,-2.25 ; 12.5,-2.25 13.25,-2.25 cw(c14,-3.95) 14.75,-2.25 15.5,-2.25 15.5,2.05 14.75,2.05 14.75,2.4 15.25,2.4 15.5,3.4 12.5,3.4 12.75,2.4 13.25,2.4 13.25,2.05 12.5,2.05 12.5,-2.25
Top Assembly:
  lines w0.254: -2.6,3.5 -2.6,4.75 -0.6,4.75 ; -6.9,-3 20.9,-3 20.9,3 16.1,3 16.1,4.25 -2.1,4.25 -2.1,3 -6.9,3 -6.9,-3
  text "'.Designator'" at 2.953,2.71 h1
Top Courtyard:
  lines w0.254: -7.4,-3.5 21.4,-3.5 21.4,4.75 -7.4,4.75 -7.4,-3.5
Top Designator:
  text ".Designator" at -0.618,0.117 h1.52

## PhoenixContact_MCV_1,5_5-GF-3.5_1x05_P3.50mm_Vertical_ThreadedFlange_MountHole [mm]
pads (7):
  rrect14% 1.8x3.6 hole 1.2: 1(0,0)
  rrect100% 1.8x3.6 hole 1.2: 2(3.5,0) 3(7,0) 4(10.5,0) 5(14,0)
  round 2.4 hole 2.4: Un1(-4.3,0) Un2(18.3,0)
F.SilkS:
  circle w0.254: c18.3,0 r1.9
  circle w0.254: c-4.3,0 r1.9
  lines w0.254: -2.6,3.5 -2.6,4.75 -0.6,4.75 ; 0.75,-2.25 ccw(c0,-3.95) -0.75,-2.25 -1.5,-2.25 -1.5,2.05 -0.75,2.05 -0.75,2.4 -1.25,2.4 -1.5,3.4 1.5,3.4 1.25,2.4 0.75,2.4 0.75,2.05 1.5,2.05 1.5,-2.25 0.75,-2.25 ; -7.01,-3.11 21.01,-3.11 21.01,3.11 16.21,3.11 16.21,4.36 -2.21,4.36 -2.21,3.11 -7.01,3.11 -7.01,-3.11 ; 2,-2.25 2.75,-2.25 cw(c3.5,-3.95) 4.25,-2.25 5,-2.25 5,2.05 4.25,2.05 4.25,2.4 4.75,2.4 5,3.4 2,3.4 2.25,2.4 2.75,2.4 2.75,2.05 2,2.05 2,-2.25 ; 5.5,-2.25 6.25,-2.25 cw(c7,-3.95) 7.75,-2.25 8.5,-2.25 8.5,2.05 7.75,2.05 7.75,2.4 8.25,2.4 8.5,3.4 5.5,3.4 5.75,2.4 6.25,2.4 6.25,2.05 5.5,2.05 5.5,-2.25 ; 9,-2.25 9.75,-2.25 cw(c10.5,-3.95) 11.25,-2.25 12,-2.25 12,2.05 11.25,2.05 11.25,2.4 11.75,2.4 12,3.4 9,3.4 9.25,2.4 9.75,2.4 9.75,2.05 9,2.05 9,-2.25 ; 12.5,-2.25 13.25,-2.25 cw(c14,-3.95) 14.75,-2.25 15.5,-2.25 15.5,2.05 14.75,2.05 14.75,2.4 15.25,2.4 15.5,3.4 12.5,3.4 12.75,2.4 13.25,2.4 13.25,2.05 12.5,2.05 12.5,-2.25
B.SilkS:
  circle w0.254: c18.3,0 r2.21
  circle w0.254: c-4.3,0 r2.21
Top Assembly:
  lines w0.254: -2.6,3.5 -2.6,4.75 -0.6,4.75 ; -6.9,-3 20.9,-3 20.9,3 16.1,3 16.1,4.25 -2.1,4.25 -2.1,3 -6.9,3 -6.9,-3
  text "'.Designator'" at 2.953,2.71 h1
Bottom Assembly:
  circle w0.254: c18.3,0 r2.1
  circle w0.254: c-4.3,0 r2.1
Top Courtyard:
  lines w0.254: -7.4,-3.5 21.4,-3.5 21.4,4.75 -7.4,4.75 -7.4,-3.5
Bottom Courtyard:
  circle w0.254: c18.3,0 r2.6
  circle w0.254: c-4.3,0 r2.6
Top Designator:
  text ".Designator" at -0.618,0.117 h1.52